# Altium schematic symbol library SCH - RF - MODULE - ESPRESSIF ESP32-C3-MINI-1.SchLib: 1 symbol
Pins are listed as number, name and electrical type; pins without a type are passive.

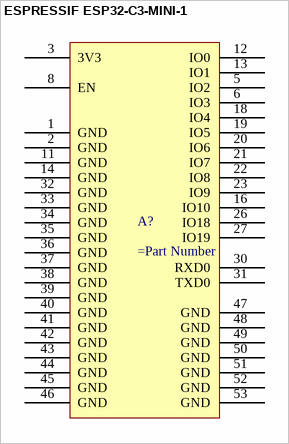
[diagram p0: symbol ESPRESSIF ESP32-C3-MINI-1]

## ESPRESSIF ESP32-C3-MINI-1
designator A?
pins: 1 GND, 2 GND, 3 3V3, 5 IO2, 6 IO3, 8 EN, 11 GND, 12 IO0, 13 IO1, 14 GND, 16 IO10, 18 IO4, 19 IO5, 20 IO6, 21 IO7, 22 IO8, 23 IO9, 26 IO18, 27 IO19, 30 RXD0, 31 TXD0, 32 GND, 33 GND, 34 GND, 35 GND, 36 GND, 37 GND, 38 GND, 39 GND, 40 GND, 41 GND, 42 GND, 43 GND, 44 GND, 45 GND, 46 GND, 47 GND, 48 GND, 49 GND, 50 GND, 51 GND, 52 GND, 53 GND